# Altium footprint library Con Mod Jack PCB.PcbLib: 213 footprints (part 3 of 14)
Each footprint in its own frame and in the unit in brackets; x right, y up, seen from the top. Pads: shape width x height; smd on the part's side, far side on the other; paste and mask are expansions set on the pad; w line width, h text height; cw(c..) or ccw(c..) is an arc to the next point about the centre after c.
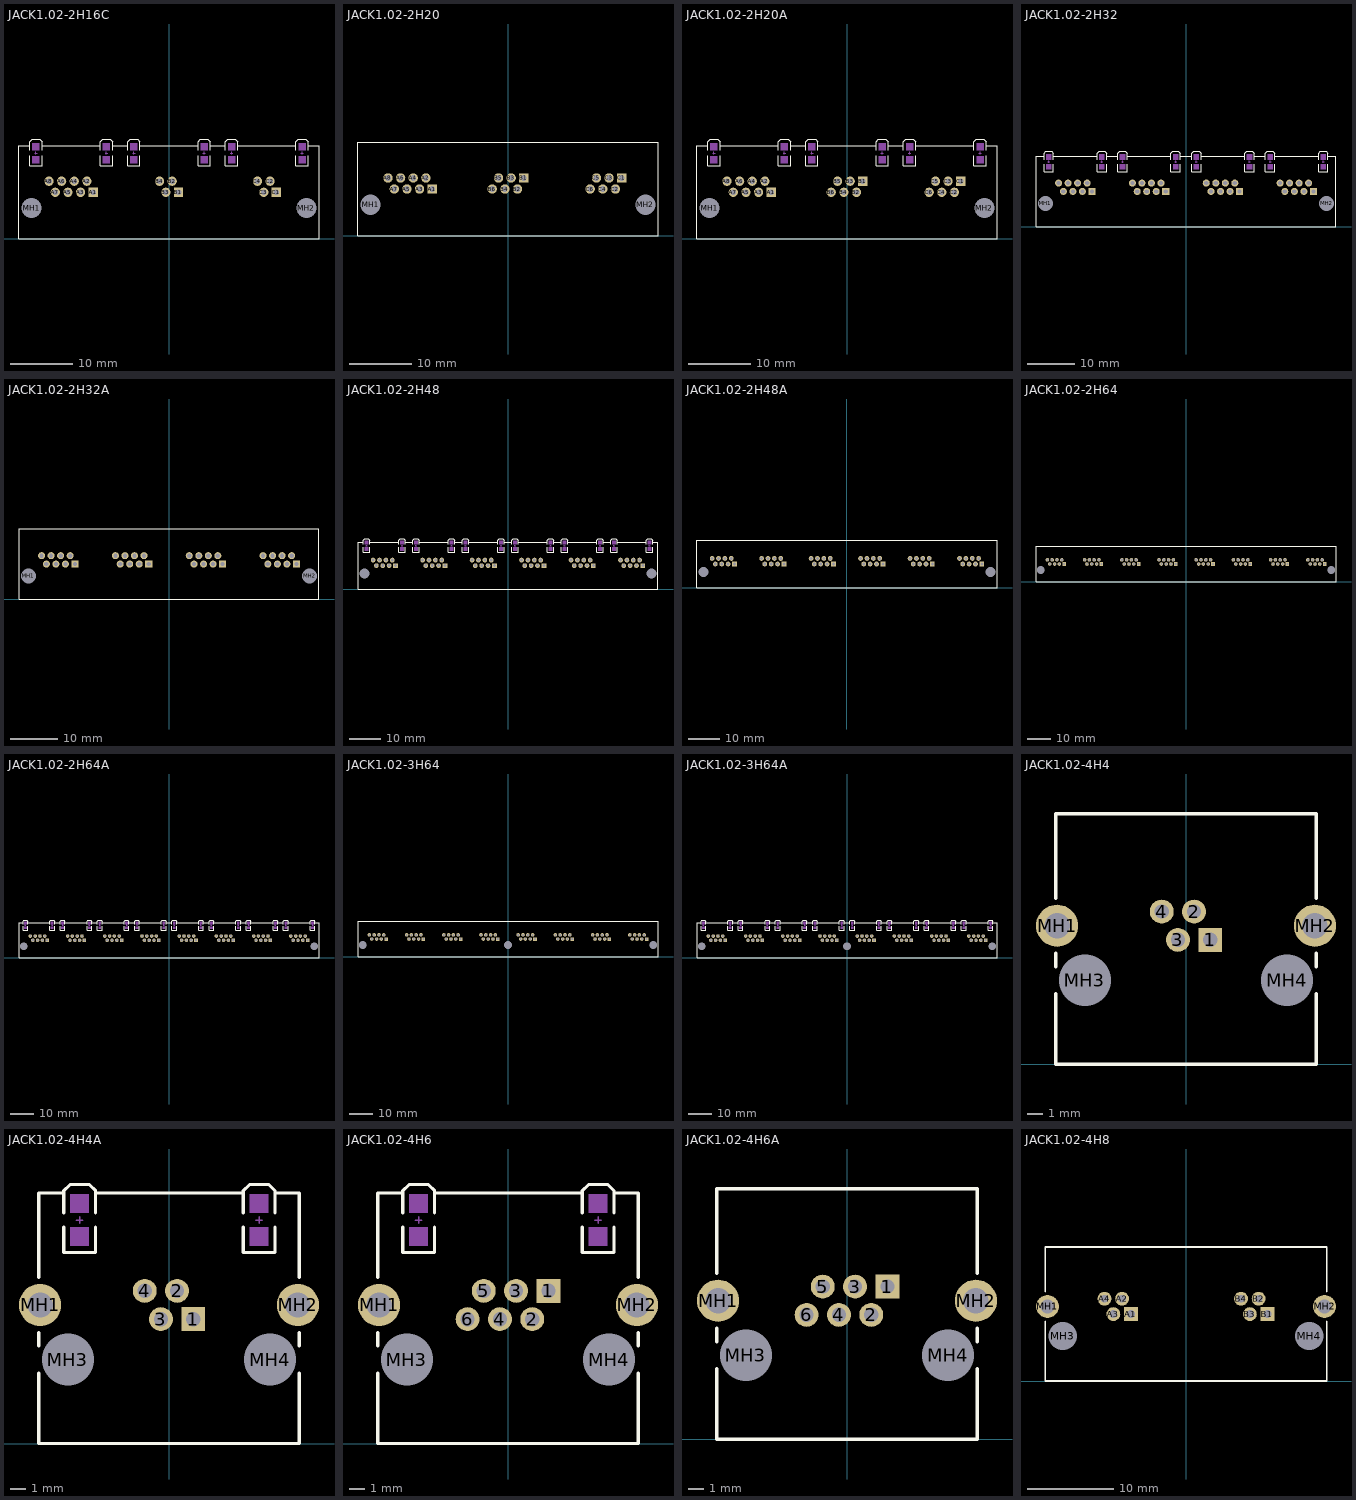
[diagram p2: the footprints below, top view; thin cyan lines are the x and y axes]

## JACK1.02-2H16C [mm] "Connector; PCB Jack, Thru-Hole; 3-Port; Unshielded with Lightpipes; Right Angle"
height 13.21
pads (18):
  rect 1.5x1.5 hole 0.9: A1(-12.192,7.49) B1(1.524,7.49) C1(17.272,7.49)
  round 1.5 hole 0.9: A2(-13.208,9.268) A3(-14.224,7.49) A4(-15.24,9.268) A5(-16.256,7.49) A6(-17.272,9.268) A7(-18.288,7.49) A8(-19.304,9.268) B2(0.508,9.268) B3(-0.508,7.49) B4(-1.524,9.268) C2(16.256,9.268) C3(15.24,7.49) C4(14.224,9.268)
  round 2.95 hole 3.25 unplated: MH1(-22.098,4.95) MH2(22.098,4.95)
Top Overlay:
  lines w0.2: -22.412,13.348 -22.412,11.748 -20.412,11.748 -20.412,13.348 ; -22.412,14.231 -22.412,15.631 -22.012,16.031 -20.812,16.031 -20.412,15.631 -20.412,14.231 ; -22.412,14.99 -24.123,14.99 -24.123,0 24.123,0 24.123,14.99 22.412,14.99 ; -20.412,14.99 -11.084,14.99 ; -11.084,13.348 -11.084,11.748 -9.084,11.748 -9.084,13.348 ; -11.084,14.231 -11.084,15.631 -10.684,16.031 -9.484,16.031 -9.084,15.631 -9.084,14.231 ; -9.084,14.99 -6.664,14.99 ; -6.664,13.348 -6.664,11.748 -4.664,11.748 -4.664,13.348 ; -6.664,14.231 -6.664,15.631 -6.264,16.031 -5.064,16.031 -4.664,15.631 -4.664,14.231 ; -4.664,14.99 4.664,14.99 ; 4.664,13.348 4.664,11.748 6.664,11.748 6.664,13.348 ; 4.664,14.231 4.664,15.631 5.064,16.031 6.264,16.031 6.664,15.631 6.664,14.231 ; 6.664,14.99 9.084,14.99 ; 9.084,13.348 9.084,11.748 11.084,11.748 11.084,13.348 ; 9.084,14.231 9.084,15.631 9.484,16.031 10.684,16.031 11.084,15.631 11.084,14.231 ; 11.084,14.99 20.412,14.99 ; 20.412,13.348 20.412,11.748 22.412,11.748 22.412,13.348 ; 20.412,14.231 20.412,15.631 20.812,16.031 22.012,16.031 22.412,15.631 22.412,14.231
Mechanical 1:
  rectangle: 20.812,14.231 22.012,15.431
  rectangle: 20.812,12.148 22.012,13.348
  rectangle: 9.484,14.231 10.684,15.431
  rectangle: 9.484,12.148 10.684,13.348
  rectangle: 5.064,14.231 6.264,15.431
  rectangle: 5.064,12.148 6.264,13.348
  rectangle: -6.264,14.231 -5.064,15.431
  rectangle: -6.264,12.148 -5.064,13.348
  rectangle: -10.684,14.231 -9.484,15.431
  rectangle: -10.684,12.148 -9.484,13.348
  rectangle: -22.012,14.231 -20.812,15.431
  rectangle: -22.012,12.148 -20.812,13.348
  lines w0.1: -21.612,13.789 -21.412,13.789 ; -21.412,13.589 -21.412,13.789 ; -21.412,13.989 -21.412,13.789 ; -21.212,13.789 -21.412,13.789 ; -10.284,13.789 -10.084,13.789 ; -10.084,13.589 -10.084,13.789 ; -10.084,13.989 -10.084,13.789 ; -9.884,13.789 -10.084,13.789 ; -5.864,13.789 -5.664,13.789 ; -5.664,13.589 -5.664,13.789 ; -5.664,13.989 -5.664,13.789 ; -5.464,13.789 -5.664,13.789 ; 5.464,13.789 5.664,13.789 ; 5.664,13.589 5.664,13.789 ; 5.664,13.989 5.664,13.789 ; 5.864,13.789 5.664,13.789 ; 9.884,13.789 10.084,13.789 ; 10.084,13.589 10.084,13.789 ; 10.084,13.989 10.084,13.789 ; 10.284,13.789 10.084,13.789 ; 21.212,13.789 21.412,13.789 ; 21.412,13.589 21.412,13.789 ; 21.412,13.989 21.412,13.789 ; 21.612,13.789 21.412,13.789

## JACK1.02-2H20 [mm] "Connector; PCB Jack, Thru-Hole; 3-Port; Unshielded without Lightpipes; Right Angle"
height 13.21
pads (22):
  rect 1.5x1.5 hole 0.9: A1(-12.192,7.49) B1(2.54,9.268) C1(18.288,9.268)
  round 1.5 hole 0.9: A2(-13.208,9.268) A3(-14.224,7.49) A4(-15.24,9.268) A5(-16.256,7.49) A6(-17.272,9.268) A7(-18.288,7.49) A8(-19.304,9.268) B2(1.524,7.49) B3(0.508,9.268) B4(-0.508,7.49) B5(-1.524,9.268) B6(-2.54,7.49) C2(17.272,7.49) C3(16.256,9.268) C4(15.24,7.49) C5(14.224,9.268) C6(13.208,7.49)
  round 2.95 hole 3.25 unplated: MH1(-22.098,4.95) MH2(22.098,4.95)
Top Overlay:
  lines w0.2: -24.123,0 -24.123,14.99 24.123,14.99 24.123,0 -24.123,0

## JACK1.02-2H20A [mm] "Connector; PCB Jack, Thru-Hole; 3-Port; Unshielded with Lightpipes; Right Angle"
height 13.21
pads (22):
  rect 1.5x1.5 hole 0.9: A1(-12.192,7.49) B1(2.54,9.268) C1(18.288,9.268)
  round 1.5 hole 0.9: A2(-13.208,9.268) A3(-14.224,7.49) A4(-15.24,9.268) A5(-16.256,7.49) A6(-17.272,9.268) A7(-18.288,7.49) A8(-19.304,9.268) B2(1.524,7.49) B3(0.508,9.268) B4(-0.508,7.49) B5(-1.524,9.268) B6(-2.54,7.49) C2(17.272,7.49) C3(16.256,9.268) C4(15.24,7.49) C5(14.224,9.268) C6(13.208,7.49)
  round 2.95 hole 3.25 unplated: MH1(-22.098,4.95) MH2(22.098,4.95)
Top Overlay:
  lines w0.2: -22.412,13.348 -22.412,11.748 -20.412,11.748 -20.412,13.348 ; -22.412,14.231 -22.412,15.631 -22.012,16.031 -20.812,16.031 -20.412,15.631 -20.412,14.231 ; -22.412,14.99 -24.123,14.99 -24.123,0 24.123,0 24.123,14.99 22.412,14.99 ; -20.412,14.99 -11.084,14.99 ; -11.084,13.348 -11.084,11.748 -9.084,11.748 -9.084,13.348 ; -11.084,14.231 -11.084,15.631 -10.684,16.031 -9.484,16.031 -9.084,15.631 -9.084,14.231 ; -9.084,14.99 -6.664,14.99 ; -6.664,13.348 -6.664,11.748 -4.664,11.748 -4.664,13.348 ; -6.664,14.231 -6.664,15.631 -6.264,16.031 -5.064,16.031 -4.664,15.631 -4.664,14.231 ; -4.664,14.99 4.664,14.99 ; 4.664,13.348 4.664,11.748 6.664,11.748 6.664,13.348 ; 4.664,14.231 4.664,15.631 5.064,16.031 6.264,16.031 6.664,15.631 6.664,14.231 ; 6.664,14.99 9.084,14.99 ; 9.084,13.348 9.084,11.748 11.084,11.748 11.084,13.348 ; 9.084,14.231 9.084,15.631 9.484,16.031 10.684,16.031 11.084,15.631 11.084,14.231 ; 11.084,14.99 20.412,14.99 ; 20.412,13.348 20.412,11.748 22.412,11.748 22.412,13.348 ; 20.412,14.231 20.412,15.631 20.812,16.031 22.012,16.031 22.412,15.631 22.412,14.231
Mechanical 1:
  rectangle: -22.012,12.148 -20.812,13.348
  rectangle: -22.012,14.231 -20.812,15.431
  rectangle: -10.684,12.148 -9.484,13.348
  rectangle: -10.684,14.231 -9.484,15.431
  rectangle: -6.264,12.148 -5.064,13.348
  rectangle: -6.264,14.231 -5.064,15.431
  rectangle: 5.064,12.148 6.264,13.348
  rectangle: 5.064,14.231 6.264,15.431
  rectangle: 9.484,12.148 10.684,13.348
  rectangle: 9.484,14.231 10.684,15.431
  rectangle: 20.812,12.148 22.012,13.348
  rectangle: 20.812,14.231 22.012,15.431
  lines w0.1: -21.612,13.789 -21.412,13.789 ; -21.412,13.589 -21.412,13.789 ; -21.412,13.989 -21.412,13.789 ; -21.212,13.789 -21.412,13.789 ; -10.284,13.789 -10.084,13.789 ; -10.084,13.589 -10.084,13.789 ; -10.084,13.989 -10.084,13.789 ; -9.884,13.789 -10.084,13.789 ; -5.864,13.789 -5.664,13.789 ; -5.664,13.589 -5.664,13.789 ; -5.664,13.989 -5.664,13.789 ; -5.464,13.789 -5.664,13.789 ; 5.464,13.789 5.664,13.789 ; 5.664,13.589 5.664,13.789 ; 5.664,13.989 5.664,13.789 ; 5.864,13.789 5.664,13.789 ; 9.884,13.789 10.084,13.789 ; 10.084,13.589 10.084,13.789 ; 10.084,13.989 10.084,13.789 ; 10.284,13.789 10.084,13.789 ; 21.212,13.789 21.412,13.789 ; 21.412,13.589 21.412,13.789 ; 21.412,13.989 21.412,13.789 ; 21.612,13.789 21.412,13.789

## JACK1.02-2H32 [mm] "Connector; PCB Jack, Thru-Hole; 4-Port, 8 Positions, 8 Loaded; Unshielded with Lightpipes; Right Angle"
height 13.21
pads (34):
  rect 1.5x1.5 hole 0.9: A1(-20.066,7.49) B1(-4.318,7.49) C1(11.43,7.49) D1(27.178,7.49)
  round 1.5 hole 0.9: A2(-21.082,9.268) A3(-22.098,7.49) A4(-23.114,9.268) A5(-24.13,7.49) A6(-25.146,9.268) A7(-26.162,7.49) A8(-27.178,9.268) B2(-5.334,9.268) B3(-6.35,7.49) B4(-7.366,9.268) B5(-8.382,7.49) B6(-9.398,9.268) B7(-10.414,7.49) B8(-11.43,9.268) C2(10.414,9.268) C3(9.398,7.49) C4(8.382,9.268) C5(7.366,7.49) C6(6.35,9.268) C7(5.334,7.49) C8(4.318,9.268) D2(26.162,9.268) D3(25.146,7.49) D4(24.13,9.268) D5(23.114,7.49) D6(22.098,9.268) D7(21.082,7.49) D8(20.066,9.268)
  round 2.95 hole 3.25 unplated: MH1(-29.972,4.95) MH2(29.972,4.95)
Top Overlay:
  lines w0.2: -30.286,13.348 -30.286,11.748 -28.286,11.748 -28.286,13.348 ; -30.286,14.231 -30.286,15.631 -29.886,16.031 -28.686,16.031 -28.286,15.631 -28.286,14.231 ; -30.286,14.99 -31.997,14.99 -31.997,0 31.997,0 31.997,14.99 30.286,14.99 ; -28.286,14.99 -18.958,14.99 ; -18.958,13.348 -18.958,11.748 -16.958,11.748 -16.958,13.348 ; -18.958,14.231 -18.958,15.631 -18.558,16.031 -17.358,16.031 -16.958,15.631 -16.958,14.231 ; -16.958,14.99 -14.538,14.99 ; -14.538,13.348 -14.538,11.748 -12.538,11.748 -12.538,13.348 ; -14.538,14.231 -14.538,15.631 -14.138,16.031 -12.938,16.031 -12.538,15.631 -12.538,14.231 ; -12.538,14.99 -3.21,14.99 ; -3.21,13.348 -3.21,11.748 -1.21,11.748 -1.21,13.348 ; -3.21,14.231 -3.21,15.631 -2.81,16.031 -1.61,16.031 -1.21,15.631 -1.21,14.231 ; -1.21,14.99 1.21,14.99 ; 1.21,13.348 1.21,11.748 3.21,11.748 3.21,13.348 ; 1.21,14.231 1.21,15.631 1.61,16.031 2.81,16.031 3.21,15.631 3.21,14.231 ; 3.21,14.99 12.538,14.99 ; 12.538,13.348 12.538,11.748 14.538,11.748 14.538,13.348 ; 12.538,14.231 12.538,15.631 12.938,16.031 14.138,16.031 14.538,15.631 14.538,14.231 ; 14.538,14.99 16.958,14.99 ; 16.958,13.348 16.958,11.748 18.958,11.748 18.958,13.348 ; 16.958,14.231 16.958,15.631 17.358,16.031 18.558,16.031 18.958,15.631 18.958,14.231 ; 18.958,14.99 28.286,14.99 ; 28.286,13.348 28.286,11.748 30.286,11.748 30.286,13.348 ; 28.286,14.231 28.286,15.631 28.686,16.031 29.886,16.031 30.286,15.631 30.286,14.231
Mechanical 1:
  rectangle: -29.886,12.148 -28.686,13.348
  rectangle: -29.886,14.231 -28.686,15.431
  rectangle: -18.558,12.148 -17.358,13.348
  rectangle: -18.558,14.231 -17.358,15.431
  rectangle: -14.138,12.148 -12.938,13.348
  rectangle: -14.138,14.231 -12.938,15.431
  rectangle: -2.81,12.148 -1.61,13.348
  rectangle: -2.81,14.231 -1.61,15.431
  rectangle: 1.61,12.148 2.81,13.348
  rectangle: 1.61,14.231 2.81,15.431
  rectangle: 12.938,12.148 14.138,13.348
  rectangle: 12.938,14.231 14.138,15.431
  rectangle: 17.358,12.148 18.558,13.348
  rectangle: 17.358,14.231 18.558,15.431
  rectangle: 28.686,12.148 29.886,13.348
  rectangle: 28.686,14.231 29.886,15.431
  lines w0.1: -29.486,13.789 -29.286,13.789 ; -29.286,13.589 -29.286,13.789 ; -29.286,13.989 -29.286,13.789 ; -29.086,13.789 -29.286,13.789 ; -18.158,13.789 -17.958,13.789 ; -17.958,13.589 -17.958,13.789 ; -17.958,13.989 -17.958,13.789 ; -17.758,13.789 -17.958,13.789 ; -13.738,13.789 -13.538,13.789 ; -13.538,13.589 -13.538,13.789 ; -13.538,13.989 -13.538,13.789 ; -13.338,13.789 -13.538,13.789 ; -2.41,13.789 -2.21,13.789 ; -2.21,13.589 -2.21,13.789 ; -2.21,13.989 -2.21,13.789 ; -2.01,13.789 -2.21,13.789 ; 2.01,13.789 2.21,13.789 ; 2.21,13.589 2.21,13.789 ; 2.21,13.989 2.21,13.789 ; 2.41,13.789 2.21,13.789 ; 13.338,13.789 13.538,13.789 ; 13.538,13.589 13.538,13.789 ; 13.538,13.989 13.538,13.789 ; 13.738,13.789 13.538,13.789 ; 17.758,13.789 17.958,13.789 ; 17.958,13.589 17.958,13.789 ; 17.958,13.989 17.958,13.789 ; 18.158,13.789 17.958,13.789 ; 29.086,13.789 29.286,13.789 ; 29.286,13.589 29.286,13.789 ; 29.286,13.989 29.286,13.789 ; 29.486,13.789 29.286,13.789

## JACK1.02-2H32A [mm] "Connector; PCB Jack, Thru-Hole; 4-Port, 8 Positions, 8 Loaded; Unshielded without Lightpipes; Right Angle"
height 13.21
pads (34):
  rect 1.5x1.5 hole 0.9: A1(-20.066,7.49) B1(-4.318,7.49) C1(11.43,7.49) D1(27.178,7.49)
  round 1.5 hole 0.9: A2(-21.082,9.268) A3(-22.098,7.49) A4(-23.114,9.268) A5(-24.13,7.49) A6(-25.146,9.268) A7(-26.162,7.49) A8(-27.178,9.268) B2(-5.334,9.268) B3(-6.35,7.49) B4(-7.366,9.268) B5(-8.382,7.49) B6(-9.398,9.268) B7(-10.414,7.49) B8(-11.43,9.268) C2(10.414,9.268) C3(9.398,7.49) C4(8.382,9.268) C5(7.366,7.49) C6(6.35,9.268) C7(5.334,7.49) C8(4.318,9.268) D2(26.162,9.268) D3(25.146,7.49) D4(24.13,9.268) D5(23.114,7.49) D6(22.098,9.268) D7(21.082,7.49) D8(20.066,9.268)
  round 2.95 hole 3.25 unplated: MH1(-29.972,4.95) MH2(29.972,4.95)
Top Overlay:
  lines w0.2: -31.997,0 31.997,0 31.997,14.99 -31.997,14.99 -31.997,0

## JACK1.02-2H48 [mm] "Connector; PCB Jack, Thru-Hole; 6-Port, 8 Positions, 8 Loaded; Unshielded with Lightpipes; Right Angle"
height 13.21
pads (50):
  rect 1.5x1.5 hole 0.9: A1(-35.814,7.49) B1(-20.066,7.49) C1(-4.318,7.49) D1(11.43,7.49) E1(27.178,7.49) F1(42.926,7.49)
  round 1.5 hole 0.9: A2(-36.83,9.268) A3(-37.846,7.49) A4(-38.862,9.268) A5(-39.878,7.49) A6(-40.894,9.268) A7(-41.91,7.49) A8(-42.926,9.268) B2(-21.082,9.268) B3(-22.098,7.49) B4(-23.114,9.268) B5(-24.13,7.49) B6(-25.146,9.268) B7(-26.162,7.49) B8(-27.178,9.268) C2(-5.334,9.268) C3(-6.35,7.49) C4(-7.366,9.268) C5(-8.382,7.49) C6(-9.398,9.268) C7(-10.414,7.49) C8(-11.43,9.268) D2(10.414,9.268) D3(9.398,7.49) D4(8.382,9.268) D5(7.366,7.49) D6(6.35,9.268) D7(5.334,7.49) D8(4.318,9.268) E2(26.162,9.268) E3(25.146,7.49) E4(24.13,9.268) E5(23.114,7.49) E6(22.098,9.268) E7(21.082,7.49) E8(20.066,9.268) F2(41.91,9.268) F3(40.894,7.49) F4(39.878,9.268) F5(38.862,7.49) F6(37.846,9.268) F7(36.83,7.49) F8(35.814,9.268)
  round 2.95 hole 3.25 unplated: MH1(-45.72,4.95) MH2(45.72,4.95)
Top Overlay:
  lines w0.2: -46.034,13.348 -46.034,11.748 -44.034,11.748 -44.034,13.348 ; -46.034,14.231 -46.034,15.631 -45.634,16.031 -44.434,16.031 -44.034,15.631 -44.034,14.231 ; -46.034,14.99 -47.745,14.99 -47.745,0 47.745,0 47.745,14.99 46.034,14.99 ; -44.034,14.99 -34.706,14.99 ; -34.706,13.348 -34.706,11.748 -32.706,11.748 -32.706,13.348 ; -34.706,14.231 -34.706,15.631 -34.306,16.031 -33.106,16.031 -32.706,15.631 -32.706,14.231 ; -32.706,14.99 -30.286,14.99 ; -30.286,13.348 -30.286,11.748 -28.286,11.748 -28.286,13.348 ; -30.286,14.231 -30.286,15.631 -29.886,16.031 -28.686,16.031 -28.286,15.631 -28.286,14.231 ; -28.286,14.99 -18.958,14.99 ; -18.958,13.348 -18.958,11.748 -16.958,11.748 -16.958,13.348 ; -18.958,14.231 -18.958,15.631 -18.558,16.031 -17.358,16.031 -16.958,15.631 -16.958,14.231 ; -16.958,14.99 -14.538,14.99 ; -14.538,13.348 -14.538,11.748 -12.538,11.748 -12.538,13.348 ; -14.538,14.231 -14.538,15.631 -14.138,16.031 -12.938,16.031 -12.538,15.631 -12.538,14.231 ; -12.538,14.99 -3.21,14.99 ; -3.21,13.348 -3.21,11.748 -1.21,11.748 -1.21,13.348 ; -3.21,14.231 -3.21,15.631 -2.81,16.031 -1.61,16.031 -1.21,15.631 -1.21,14.231 ; -1.21,14.99 1.21,14.99 ; 1.21,13.348 1.21,11.748 3.21,11.748 3.21,13.348 ; 1.21,14.231 1.21,15.631 1.61,16.031 2.81,16.031 3.21,15.631 3.21,14.231 ; 3.21,14.99 12.538,14.99 ; 12.538,13.348 12.538,11.748 14.538,11.748 14.538,13.348 ; 12.538,14.231 12.538,15.631 12.938,16.031 14.138,16.031 14.538,15.631 14.538,14.231 ; 14.538,14.99 16.958,14.99 ; 16.958,13.348 16.958,11.748 18.958,11.748 18.958,13.348 ; 16.958,14.231 16.958,15.631 17.358,16.031 18.558,16.031 18.958,15.631 18.958,14.231 ; 18.958,14.99 28.286,14.99 ; 28.286,13.348 28.286,11.748 30.286,11.748 30.286,13.348 ; 28.286,14.231 28.286,15.631 28.686,16.031 29.886,16.031 30.286,15.631 30.286,14.231 ; 30.286,14.99 32.706,14.99 ; 32.706,13.348 32.706,11.748 34.706,11.748 34.706,13.348 ; 32.706,14.231 32.706,15.631 33.106,16.031 34.306,16.031 34.706,15.631 34.706,14.231 ; 34.706,14.99 44.034,14.99 ; 44.034,13.348 44.034,11.748 46.034,11.748 46.034,13.348 ; 44.034,14.231 44.034,15.631 44.434,16.031 45.634,16.031 46.034,15.631 46.034,14.231
Mechanical 1:
  rectangle: 44.434,14.231 45.634,15.431
  rectangle: 44.434,12.148 45.634,13.348
  rectangle: 33.106,14.231 34.306,15.431
  rectangle: 33.106,12.148 34.306,13.348
  rectangle: 28.686,14.231 29.886,15.431
  rectangle: 28.686,12.148 29.886,13.348
  rectangle: 17.358,14.231 18.558,15.431
  rectangle: 17.358,12.148 18.558,13.348
  rectangle: 12.938,14.231 14.138,15.431
  rectangle: 12.938,12.148 14.138,13.348
  rectangle: 1.61,14.231 2.81,15.431
  rectangle: 1.61,12.148 2.81,13.348
  rectangle: -2.81,14.231 -1.61,15.431
  rectangle: -2.81,12.148 -1.61,13.348
  rectangle: -14.138,14.231 -12.938,15.431
  rectangle: -14.138,12.148 -12.938,13.348
  rectangle: -18.558,14.231 -17.358,15.431
  rectangle: -18.558,12.148 -17.358,13.348
  rectangle: -29.886,14.231 -28.686,15.431
  rectangle: -29.886,12.148 -28.686,13.348
  rectangle: -34.306,14.231 -33.106,15.431
  rectangle: -34.306,12.148 -33.106,13.348
  rectangle: -45.634,14.231 -44.434,15.431
  rectangle: -45.634,12.148 -44.434,13.348
  lines w0.1: -45.234,13.789 -45.034,13.789 ; -45.034,13.589 -45.034,13.789 ; -45.034,13.989 -45.034,13.789 ; -44.834,13.789 -45.034,13.789 ; -33.906,13.789 -33.706,13.789 ; -33.706,13.589 -33.706,13.789 ; -33.706,13.989 -33.706,13.789 ; -33.506,13.789 -33.706,13.789 ; -29.486,13.789 -29.286,13.789 ; -29.286,13.589 -29.286,13.789 ; -29.286,13.989 -29.286,13.789 ; -29.086,13.789 -29.286,13.789 ; -18.158,13.789 -17.958,13.789 ; -17.958,13.589 -17.958,13.789 ; -17.958,13.989 -17.958,13.789 ; -17.758,13.789 -17.958,13.789 ; -13.738,13.789 -13.538,13.789 ; -13.538,13.589 -13.538,13.789 ; -13.538,13.989 -13.538,13.789 ; -13.338,13.789 -13.538,13.789 ; -2.41,13.789 -2.21,13.789 ; -2.21,13.589 -2.21,13.789 ; -2.21,13.989 -2.21,13.789 ; -2.01,13.789 -2.21,13.789 ; 2.01,13.789 2.21,13.789 ; 2.21,13.589 2.21,13.789 ; 2.21,13.989 2.21,13.789 ; 2.41,13.789 2.21,13.789 ; 13.338,13.789 13.538,13.789 ; 13.538,13.589 13.538,13.789 ; 13.538,13.989 13.538,13.789 ; 13.738,13.789 13.538,13.789 ; 17.758,13.789 17.958,13.789 ; 17.958,13.589 17.958,13.789 ; 17.958,13.989 17.958,13.789 ; 18.158,13.789 17.958,13.789 ; 29.086,13.789 29.286,13.789 ; 29.286,13.589 29.286,13.789 ; 29.286,13.989 29.286,13.789 ; 29.486,13.789 29.286,13.789 ; 33.506,13.789 33.706,13.789 ; 33.706,13.589 33.706,13.789 ; 33.706,13.989 33.706,13.789 ; 33.906,13.789 33.706,13.789 ; 44.834,13.789 45.034,13.789 ; 45.034,13.589 45.034,13.789 ; 45.034,13.989 45.034,13.789 ; 45.234,13.789 45.034,13.789

## JACK1.02-2H48A [mm] "Connector; PCB Jack, Thru-Hole; 6-Port, 8 Positions, 8 Loaded; Unshielded without Lightpipes; Right Angle"
height 13.21
pads (50):
  rect 1.5x1.5 hole 0.9: A1(-35.814,7.49) B1(-20.066,7.49) C1(-4.318,7.49) D1(11.43,7.49) E1(27.178,7.49) F1(42.926,7.49)
  round 1.5 hole 0.9: A2(-36.83,9.268) A3(-37.846,7.49) A4(-38.862,9.268) A5(-39.878,7.49) A6(-40.894,9.268) A7(-41.91,7.49) A8(-42.926,9.268) B2(-21.082,9.268) B3(-22.098,7.49) B4(-23.114,9.268) B5(-24.13,7.49) B6(-25.146,9.268) B7(-26.162,7.49) B8(-27.178,9.268) C2(-5.334,9.268) C3(-6.35,7.49) C4(-7.366,9.268) C5(-8.382,7.49) C6(-9.398,9.268) C7(-10.414,7.49) C8(-11.43,9.268) D2(10.414,9.268) D3(9.398,7.49) D4(8.382,9.268) D5(7.366,7.49) D6(6.35,9.268) D7(5.334,7.49) D8(4.318,9.268) E2(26.162,9.268) E3(25.146,7.49) E4(24.13,9.268) E5(23.114,7.49) E6(22.098,9.268) E7(21.082,7.49) E8(20.066,9.268) F2(41.91,9.268) F3(40.894,7.49) F4(39.878,9.268) F5(38.862,7.49) F6(37.846,9.268) F7(36.83,7.49) F8(35.814,9.268)
  round 2.95 hole 3.25 unplated: MH1(-45.72,4.95) MH2(45.72,4.95)
Top Overlay:
  lines w0.2: -47.745,0 -47.745,14.99 47.745,14.99 47.745,0 -47.745,0

## JACK1.02-2H64 [mm] "Connector; PCB Jack, Thru-Hole; 8-Port, 8 Positions, 8 Loaded; Unshielded without Lightpipes; Right Angle"
height 13.21
pads (66):
  rect 1.5x1.5 hole 0.9: A1(-51.562,7.49) B1(-35.814,7.49) C1(-20.066,7.49) D1(-4.318,7.49) E1(11.43,7.49) F1(27.178,7.49) G1(42.926,7.49) H1(58.674,7.49)
  round 1.5 hole 0.9: A2(-52.578,9.268) A3(-53.594,7.49) A4(-54.61,9.268) A5(-55.626,7.49) A6(-56.642,9.268) A7(-57.658,7.49) A8(-58.674,9.268) B2(-36.83,9.268) B3(-37.846,7.49) B4(-38.862,9.268) B5(-39.878,7.49) B6(-40.894,9.268) B7(-41.91,7.49) B8(-42.926,9.268) C2(-21.082,9.268) C3(-22.098,7.49) C4(-23.114,9.268) C5(-24.13,7.49) C6(-25.146,9.268) C7(-26.162,7.49) C8(-27.178,9.268) D2(-5.334,9.268) D3(-6.35,7.49) D4(-7.366,9.268) D5(-8.382,7.49) D6(-9.398,9.268) D7(-10.414,7.49) D8(-11.43,9.268) E2(10.414,9.268) E3(9.398,7.49) E4(8.382,9.268) E5(7.366,7.49) E6(6.35,9.268) E7(5.334,7.49) E8(4.318,9.268) F2(26.162,9.268) F3(25.146,7.49) F4(24.13,9.268) F5(23.114,7.49) F6(22.098,9.268) F7(21.082,7.49) F8(20.066,9.268) G2(41.91,9.268) G3(40.894,7.49) G4(39.878,9.268) G5(38.862,7.49) G6(37.846,9.268) G7(36.83,7.49) G8(35.814,9.268) H2(57.658,9.268) H3(56.642,7.49) H4(55.626,9.268) H5(54.61,7.49) H6(53.594,9.268) H7(52.578,7.49) H8(51.562,9.268)
  round 2.95 hole 3.25 unplated: MH1(-61.468,4.95) MH2(61.468,4.95)
Top Overlay:
  lines w0.2: -63.493,0 63.493,0 63.493,14.99 -63.493,14.99 -63.493,0

## JACK1.02-2H64A [mm] "Connector; PCB Jack, Thru-Hole; 8-Port, 8 Positions, 8 Loaded; Unshielded with Lightpipes; Right Angle"
height 13.21
pads (66):
  rect 1.5x1.5 hole 0.9: A1(-51.562,7.49) B1(-35.814,7.49) C1(-20.066,7.49) D1(-4.318,7.49) E1(11.43,7.49) F1(27.178,7.49) G1(42.926,7.49) H1(58.674,7.49)
  round 1.5 hole 0.9: A2(-52.578,9.268) A3(-53.594,7.49) A4(-54.61,9.268) A5(-55.626,7.49) A6(-56.642,9.268) A7(-57.658,7.49) A8(-58.674,9.268) B2(-36.83,9.268) B3(-37.846,7.49) B4(-38.862,9.268) B5(-39.878,7.49) B6(-40.894,9.268) B7(-41.91,7.49) B8(-42.926,9.268) C2(-21.082,9.268) C3(-22.098,7.49) C4(-23.114,9.268) C5(-24.13,7.49) C6(-25.146,9.268) C7(-26.162,7.49) C8(-27.178,9.268) D2(-5.334,9.268) D3(-6.35,7.49) D4(-7.366,9.268) D5(-8.382,7.49) D6(-9.398,9.268) D7(-10.414,7.49) D8(-11.43,9.268) E2(10.414,9.268) E3(9.398,7.49) E4(8.382,9.268) E5(7.366,7.49) E6(6.35,9.268) E7(5.334,7.49) E8(4.318,9.268) F2(26.162,9.268) F3(25.146,7.49) F4(24.13,9.268) F5(23.114,7.49) F6(22.098,9.268) F7(21.082,7.49) F8(20.066,9.268) G2(41.91,9.268) G3(40.894,7.49) G4(39.878,9.268) G5(38.862,7.49) G6(37.846,9.268) G7(36.83,7.49) G8(35.814,9.268) H2(57.658,9.268) H3(56.642,7.49) H4(55.626,9.268) H5(54.61,7.49) H6(53.594,9.268) H7(52.578,7.49) H8(51.562,9.268)
  round 2.95 hole 3.25 unplated: MH1(-61.468,4.95) MH2(61.468,4.95)
Top Overlay:
  lines w0.2: -61.782,13.348 -61.782,11.748 -59.782,11.748 -59.782,13.348 ; -61.782,14.231 -61.782,15.631 -61.382,16.031 -60.182,16.031 -59.782,15.631 -59.782,14.231 ; -61.782,14.99 -63.493,14.99 -63.493,0 63.493,0 63.493,14.99 61.782,14.99 ; -59.782,14.99 -50.454,14.99 ; -50.454,13.348 -50.454,11.748 -48.454,11.748 -48.454,13.348 ; -50.454,14.231 -50.454,15.631 -50.054,16.031 -48.854,16.031 -48.454,15.631 -48.454,14.231 ; -48.454,14.99 -46.034,14.99 ; -46.034,13.348 -46.034,11.748 -44.034,11.748 -44.034,13.348 ; -46.034,14.231 -46.034,15.631 -45.634,16.031 -44.434,16.031 -44.034,15.631 -44.034,14.231 ; -44.034,14.99 -34.706,14.99 ; -34.706,13.348 -34.706,11.748 -32.706,11.748 -32.706,13.348 ; -34.706,14.231 -34.706,15.631 -34.306,16.031 -33.106,16.031 -32.706,15.631 -32.706,14.231 ; -32.706,14.99 -30.286,14.99 ; -30.286,13.348 -30.286,11.748 -28.286,11.748 -28.286,13.348 ; -30.286,14.231 -30.286,15.631 -29.886,16.031 -28.686,16.031 -28.286,15.631 -28.286,14.231 ; -28.286,14.99 -18.958,14.99 ; -18.958,13.348 -18.958,11.748 -16.958,11.748 -16.958,13.348 ; -18.958,14.231 -18.958,15.631 -18.558,16.031 -17.358,16.031 -16.958,15.631 -16.958,14.231 ; -16.958,14.99 -14.538,14.99 ; -14.538,13.348 -14.538,11.748 -12.538,11.748 -12.538,13.348 ; -14.538,14.231 -14.538,15.631 -14.138,16.031 -12.938,16.031 -12.538,15.631 -12.538,14.231 ; -12.538,14.99 -3.21,14.99 ; -3.21,13.348 -3.21,11.748 -1.21,11.748 -1.21,13.348 ; -3.21,14.231 -3.21,15.631 -2.81,16.031 -1.61,16.031 -1.21,15.631 -1.21,14.231 ; -1.21,14.99 1.21,14.99 ; 1.21,13.348 1.21,11.748 3.21,11.748 3.21,13.348 ; 1.21,14.231 1.21,15.631 1.61,16.031 2.81,16.031 3.21,15.631 3.21,14.231 ; 3.21,14.99 12.538,14.99 ; 12.538,13.348 12.538,11.748 14.538,11.748 14.538,13.348 ; 12.538,14.231 12.538,15.631 12.938,16.031 14.138,16.031 14.538,15.631 14.538,14.231 ; 14.538,14.99 16.958,14.99 ; 16.958,13.348 16.958,11.748 18.958,11.748 18.958,13.348 ; 16.958,14.231 16.958,15.631 17.358,16.031 18.558,16.031 18.958,15.631 18.958,14.231 ; 18.958,14.99 28.286,14.99 ; 28.286,13.348 28.286,11.748 30.286,11.748 30.286,13.348 ; 28.286,14.231 28.286,15.631 28.686,16.031 29.886,16.031 30.286,15.631 30.286,14.231 ; 30.286,14.99 32.706,14.99 ; 32.706,13.348 32.706,11.748 34.706,11.748 34.706,13.348 ; 32.706,14.231 32.706,15.631 33.106,16.031 34.306,16.031 34.706,15.631 34.706,14.231 ; 34.706,14.99 44.034,14.99 ; 44.034,13.348 44.034,11.748 46.034,11.748 46.034,13.348 ; 44.034,14.231 44.034,15.631 44.434,16.031 45.634,16.031 46.034,15.631 46.034,14.231 ; 46.034,14.99 48.454,14.99 ; 48.454,13.348 48.454,11.748 50.454,11.748 50.454,13.348 ; 48.454,14.231 48.454,15.631 48.854,16.031 50.054,16.031 50.454,15.631 50.454,14.231 ; 50.454,14.99 59.782,14.99 ; 59.782,13.348 59.782,11.748 61.782,11.748 61.782,13.348 ; 59.782,14.231 59.782,15.631 60.182,16.031 61.382,16.031 61.782,15.631 61.782,14.231
Mechanical 1:
  rectangle: 60.182,14.231 61.382,15.431
  rectangle: 60.182,12.148 61.382,13.348
  rectangle: 48.854,14.231 50.054,15.431
  rectangle: 48.854,12.148 50.054,13.348
  rectangle: 44.434,14.231 45.634,15.431
  rectangle: 44.434,12.148 45.634,13.348
  rectangle: 33.106,14.231 34.306,15.431
  rectangle: 33.106,12.148 34.306,13.348
  rectangle: 28.686,14.231 29.886,15.431
  rectangle: 28.686,12.148 29.886,13.348
  rectangle: 17.358,14.231 18.558,15.431
  rectangle: 17.358,12.148 18.558,13.348
  rectangle: 12.938,14.231 14.138,15.431
  rectangle: 12.938,12.148 14.138,13.348
  rectangle: 1.61,14.231 2.81,15.431
  rectangle: 1.61,12.148 2.81,13.348
  rectangle: -2.81,14.231 -1.61,15.431
  rectangle: -2.81,12.148 -1.61,13.348
  rectangle: -14.138,14.231 -12.938,15.431
  rectangle: -14.138,12.148 -12.938,13.348
  rectangle: -18.558,14.231 -17.358,15.431
  rectangle: -18.558,12.148 -17.358,13.348
  rectangle: -29.886,14.231 -28.686,15.431
  rectangle: -29.886,12.148 -28.686,13.348
  rectangle: -34.306,14.231 -33.106,15.431
  rectangle: -34.306,12.148 -33.106,13.348
  rectangle: -45.634,14.231 -44.434,15.431
  rectangle: -45.634,12.148 -44.434,13.348
  rectangle: -50.054,14.231 -48.854,15.431
  rectangle: -50.054,12.148 -48.854,13.348
  rectangle: -61.382,14.231 -60.182,15.431
  rectangle: -61.382,12.148 -60.182,13.348
  lines w0.1: -60.982,13.789 -60.782,13.789 ; -60.782,13.589 -60.782,13.789 ; -60.782,13.989 -60.782,13.789 ; -60.582,13.789 -60.782,13.789 ; -49.654,13.789 -49.454,13.789 ; -49.454,13.589 -49.454,13.789 ; -49.454,13.989 -49.454,13.789 ; -49.254,13.789 -49.454,13.789 ; -45.234,13.789 -45.034,13.789 ; -45.034,13.589 -45.034,13.789 ; -45.034,13.989 -45.034,13.789 ; -44.834,13.789 -45.034,13.789 ; -33.906,13.789 -33.706,13.789 ; -33.706,13.589 -33.706,13.789 ; -33.706,13.989 -33.706,13.789 ; -33.506,13.789 -33.706,13.789 ; -29.486,13.789 -29.286,13.789 ; -29.286,13.589 -29.286,13.789 ; -29.286,13.989 -29.286,13.789 ; -29.086,13.789 -29.286,13.789 ; -18.158,13.789 -17.958,13.789 ; -17.958,13.589 -17.958,13.789 ; -17.958,13.989 -17.958,13.789 ; -17.758,13.789 -17.958,13.789 ; -13.738,13.789 -13.538,13.789 ; -13.538,13.589 -13.538,13.789 ; -13.538,13.989 -13.538,13.789 ; -13.338,13.789 -13.538,13.789 ; -2.41,13.789 -2.21,13.789 ; -2.21,13.589 -2.21,13.789 ; -2.21,13.989 -2.21,13.789 ; -2.01,13.789 -2.21,13.789 ; 2.01,13.789 2.21,13.789 ; 2.21,13.589 2.21,13.789 ; 2.21,13.989 2.21,13.789 ; 2.41,13.789 2.21,13.789 ; 13.338,13.789 13.538,13.789 ; 13.538,13.589 13.538,13.789 ; 13.538,13.989 13.538,13.789 ; 13.738,13.789 13.538,13.789 ; 17.758,13.789 17.958,13.789 ; 17.958,13.589 17.958,13.789 ; 17.958,13.989 17.958,13.789 ; 18.158,13.789 17.958,13.789 ; 29.086,13.789 29.286,13.789 ; 29.286,13.589 29.286,13.789 ; 29.286,13.989 29.286,13.789 ; 29.486,13.789 29.286,13.789 ; 33.506,13.789 33.706,13.789 ; 33.706,13.589 33.706,13.789 ; 33.706,13.989 33.706,13.789 ; 33.906,13.789 33.706,13.789 ; 44.834,13.789 45.034,13.789 ; 45.034,13.589 45.034,13.789 ; 45.034,13.989 45.034,13.789 ; 45.234,13.789 45.034,13.789 ; 49.254,13.789 49.454,13.789 ; 49.454,13.589 49.454,13.789 ; 49.454,13.989 49.454,13.789 ; 49.654,13.789 49.454,13.789 ; 60.582,13.789 60.782,13.789 ; 60.782,13.589 60.782,13.789 ; 60.782,13.989 60.782,13.789 ; 60.982,13.789 60.782,13.789

## JACK1.02-3H64 [mm] "Connector; PCB Jack, Thru-Hole; 8-Port, 8 Positions, 8 Loaded; Unshielded without Lightpipes; Right Angle"
height 13.21
pads (67):
  rect 1.5x1.5 hole 0.9: A1(-51.562,7.49) B1(-35.814,7.49) C1(-20.066,7.49) D1(-4.318,7.49) E1(11.43,7.49) F1(27.178,7.49) G1(42.926,7.49) H1(58.674,7.49)
  round 1.5 hole 0.9: A2(-52.578,9.268) A3(-53.594,7.49) A4(-54.61,9.268) A5(-55.626,7.49) A6(-56.642,9.268) A7(-57.658,7.49) A8(-58.674,9.268) B2(-36.83,9.268) B3(-37.846,7.49) B4(-38.862,9.268) B5(-39.878,7.49) B6(-40.894,9.268) B7(-41.91,7.49) B8(-42.926,9.268) C2(-21.082,9.268) C3(-22.098,7.49) C4(-23.114,9.268) C5(-24.13,7.49) C6(-25.146,9.268) C7(-26.162,7.49) C8(-27.178,9.268) D2(-5.334,9.268) D3(-6.35,7.49) D4(-7.366,9.268) D5(-8.382,7.49) D6(-9.398,9.268) D7(-10.414,7.49) D8(-11.43,9.268) E2(10.414,9.268) E3(9.398,7.49) E4(8.382,9.268) E5(7.366,7.49) E6(6.35,9.268) E7(5.334,7.49) E8(4.318,9.268) F2(26.162,9.268) F3(25.146,7.49) F4(24.13,9.268) F5(23.114,7.49) F6(22.098,9.268) F7(21.082,7.49) F8(20.066,9.268) G2(41.91,9.268) G3(40.894,7.49) G4(39.878,9.268) G5(38.862,7.49) G6(37.846,9.268) G7(36.83,7.49) G8(35.814,9.268) H2(57.658,9.268) H3(56.642,7.49) H4(55.626,9.268) H5(54.61,7.49) H6(53.594,9.268) H7(52.578,7.49) H8(51.562,9.268)
  round 2.95 hole 3.25 unplated: MH1(-61.468,4.95) MH2(0,4.95) MH3(61.468,4.95)
Top Overlay:
  lines w0.2: 63.493,14.99 63.493,0 -63.493,0 -63.493,14.99 63.493,15

## JACK1.02-3H64A [mm] "Connector; PCB Jack, Thru-Hole; 8-Port, 8 Positions, 8 Loaded; Unshielded with Lightpipes; Right Angle"
height 13.21
pads (67):
  rect 1.5x1.5 hole 0.9: A1(-51.562,7.49) B1(-35.814,7.49) C1(-20.066,7.49) D1(-4.318,7.49) E1(11.43,7.49) F1(27.178,7.49) G1(42.926,7.49) H1(58.674,7.49)
  round 1.5 hole 0.9: A2(-52.578,9.268) A3(-53.594,7.49) A4(-54.61,9.268) A5(-55.626,7.49) A6(-56.642,9.268) A7(-57.658,7.49) A8(-58.674,9.268) B2(-36.83,9.268) B3(-37.846,7.49) B4(-38.862,9.268) B5(-39.878,7.49) B6(-40.894,9.268) B7(-41.91,7.49) B8(-42.926,9.268) C2(-21.082,9.268) C3(-22.098,7.49) C4(-23.114,9.268) C5(-24.13,7.49) C6(-25.146,9.268) C7(-26.162,7.49) C8(-27.178,9.268) D2(-5.334,9.268) D3(-6.35,7.49) D4(-7.366,9.268) D5(-8.382,7.49) D6(-9.398,9.268) D7(-10.414,7.49) D8(-11.43,9.268) E2(10.414,9.268) E3(9.398,7.49) E4(8.382,9.268) E5(7.366,7.49) E6(6.35,9.268) E7(5.334,7.49) E8(4.318,9.268) F2(26.162,9.268) F3(25.146,7.49) F4(24.13,9.268) F5(23.114,7.49) F6(22.098,9.268) F7(21.082,7.49) F8(20.066,9.268) G2(41.91,9.268) G3(40.894,7.49) G4(39.878,9.268) G5(38.862,7.49) G6(37.846,9.268) G7(36.83,7.49) G8(35.814,9.268) H2(57.658,9.268) H3(56.642,7.49) H4(55.626,9.268) H5(54.61,7.49) H6(53.594,9.268) H7(52.578,7.49) H8(51.562,9.268)
  round 2.95 hole 3.25 unplated: MH1(-61.468,4.95) MH2(0,4.95) MH3(61.468,4.95)
Top Overlay:
  lines w0.2: -61.782,13.348 -61.782,11.748 -59.782,11.748 -59.782,13.348 ; -61.782,14.231 -61.782,15.631 -61.382,16.031 -60.182,16.031 -59.782,15.631 -59.782,14.231 ; -61.782,14.99 -63.493,14.99 -63.493,0 63.493,0 63.493,14.99 61.782,14.99 ; -59.782,14.99 -50.454,14.99 ; -50.454,13.348 -50.454,11.748 -48.454,11.748 -48.454,13.348 ; -50.454,14.231 -50.454,15.631 -50.054,16.031 -48.854,16.031 -48.454,15.631 -48.454,14.231 ; -48.454,14.99 -46.034,14.99 ; -46.034,13.348 -46.034,11.748 -44.034,11.748 -44.034,13.348 ; -46.034,14.231 -46.034,15.631 -45.634,16.031 -44.434,16.031 -44.034,15.631 -44.034,14.231 ; -44.034,14.99 -34.706,14.99 ; -34.706,13.348 -34.706,11.748 -32.706,11.748 -32.706,13.348 ; -34.706,14.231 -34.706,15.631 -34.306,16.031 -33.106,16.031 -32.706,15.631 -32.706,14.231 ; -32.706,14.99 -30.286,14.99 ; -30.286,13.348 -30.286,11.748 -28.286,11.748 -28.286,13.348 ; -30.286,14.231 -30.286,15.631 -29.886,16.031 -28.686,16.031 -28.286,15.631 -28.286,14.231 ; -28.286,14.99 -18.958,14.99 ; -18.958,13.348 -18.958,11.748 -16.958,11.748 -16.958,13.348 ; -18.958,14.231 -18.958,15.631 -18.558,16.031 -17.358,16.031 -16.958,15.631 -16.958,14.231 ; -16.958,14.99 -14.538,14.99 ; -14.538,13.348 -14.538,11.748 -12.538,11.748 -12.538,13.348 ; -14.538,14.231 -14.538,15.631 -14.138,16.031 -12.938,16.031 -12.538,15.631 -12.538,14.231 ; -12.538,14.99 -3.21,14.99 ; -3.21,13.348 -3.21,11.748 -1.21,11.748 -1.21,13.348 ; -3.21,14.231 -3.21,15.631 -2.81,16.031 -1.61,16.031 -1.21,15.631 -1.21,14.231 ; -1.21,14.99 1.21,14.99 ; 1.21,13.348 1.21,11.748 3.21,11.748 3.21,13.348 ; 1.21,14.231 1.21,15.631 1.61,16.031 2.81,16.031 3.21,15.631 3.21,14.231 ; 3.21,14.99 12.538,14.99 ; 12.538,13.348 12.538,11.748 14.538,11.748 14.538,13.348 ; 12.538,14.231 12.538,15.631 12.938,16.031 14.138,16.031 14.538,15.631 14.538,14.231 ; 14.538,14.99 16.958,14.99 ; 16.958,13.348 16.958,11.748 18.958,11.748 18.958,13.348 ; 16.958,14.231 16.958,15.631 17.358,16.031 18.558,16.031 18.958,15.631 18.958,14.231 ; 18.958,14.99 28.286,14.99 ; 28.286,13.348 28.286,11.748 30.286,11.748 30.286,13.348 ; 28.286,14.231 28.286,15.631 28.686,16.031 29.886,16.031 30.286,15.631 30.286,14.231 ; 30.286,14.99 32.706,14.99 ; 32.706,13.348 32.706,11.748 34.706,11.748 34.706,13.348 ; 32.706,14.231 32.706,15.631 33.106,16.031 34.306,16.031 34.706,15.631 34.706,14.231 ; 34.706,14.99 44.034,14.99 ; 44.034,13.348 44.034,11.748 46.034,11.748 46.034,13.348 ; 44.034,14.231 44.034,15.631 44.434,16.031 45.634,16.031 46.034,15.631 46.034,14.231 ; 46.034,14.99 48.454,14.99 ; 48.454,13.348 48.454,11.748 50.454,11.748 50.454,13.348 ; 48.454,14.231 48.454,15.631 48.854,16.031 50.054,16.031 50.454,15.631 50.454,14.231 ; 50.454,14.99 59.782,14.99 ; 59.782,13.348 59.782,11.748 61.782,11.748 61.782,13.348 ; 59.782,14.231 59.782,15.631 60.182,16.031 61.382,16.031 61.782,15.631 61.782,14.231
Mechanical 1:
  rectangle: 60.182,14.231 61.382,15.431
  rectangle: 60.182,12.148 61.382,13.348
  rectangle: 48.854,14.231 50.054,15.431
  rectangle: 48.854,12.148 50.054,13.348
  rectangle: 44.434,14.231 45.634,15.431
  rectangle: 44.434,12.148 45.634,13.348
  rectangle: 33.106,14.231 34.306,15.431
  rectangle: 33.106,12.148 34.306,13.348
  rectangle: 28.686,14.231 29.886,15.431
  rectangle: 28.686,12.148 29.886,13.348
  rectangle: 17.358,14.231 18.558,15.431
  rectangle: 17.358,12.148 18.558,13.348
  rectangle: 12.938,14.231 14.138,15.431
  rectangle: 12.938,12.148 14.138,13.348
  rectangle: 1.61,14.231 2.81,15.431
  rectangle: 1.61,12.148 2.81,13.348
  rectangle: -2.81,14.231 -1.61,15.431
  rectangle: -2.81,12.148 -1.61,13.348
  rectangle: -14.138,14.231 -12.938,15.431
  rectangle: -14.138,12.148 -12.938,13.348
  rectangle: -18.558,14.231 -17.358,15.431
  rectangle: -18.558,12.148 -17.358,13.348
  rectangle: -29.886,14.231 -28.686,15.431
  rectangle: -29.886,12.148 -28.686,13.348
  rectangle: -34.306,14.231 -33.106,15.431
  rectangle: -34.306,12.148 -33.106,13.348
  rectangle: -45.634,14.231 -44.434,15.431
  rectangle: -45.634,12.148 -44.434,13.348
  rectangle: -50.054,14.231 -48.854,15.431
  rectangle: -50.054,12.148 -48.854,13.348
  rectangle: -61.382,14.231 -60.182,15.431
  rectangle: -61.382,12.148 -60.182,13.348
  lines w0.1: -60.982,13.789 -60.782,13.789 ; -60.782,13.589 -60.782,13.789 ; -60.782,13.989 -60.782,13.789 ; -60.582,13.789 -60.782,13.789 ; -49.654,13.789 -49.454,13.789 ; -49.454,13.589 -49.454,13.789 ; -49.454,13.989 -49.454,13.789 ; -49.254,13.789 -49.454,13.789 ; -45.234,13.789 -45.034,13.789 ; -45.034,13.589 -45.034,13.789 ; -45.034,13.989 -45.034,13.789 ; -44.834,13.789 -45.034,13.789 ; -33.906,13.789 -33.706,13.789 ; -33.706,13.589 -33.706,13.789 ; -33.706,13.989 -33.706,13.789 ; -33.506,13.789 -33.706,13.789 ; -29.486,13.789 -29.286,13.789 ; -29.286,13.589 -29.286,13.789 ; -29.286,13.989 -29.286,13.789 ; -29.086,13.789 -29.286,13.789 ; -18.158,13.789 -17.958,13.789 ; -17.958,13.589 -17.958,13.789 ; -17.958,13.989 -17.958,13.789 ; -17.758,13.789 -17.958,13.789 ; -13.738,13.789 -13.538,13.789 ; -13.538,13.589 -13.538,13.789 ; -13.538,13.989 -13.538,13.789 ; -13.338,13.789 -13.538,13.789 ; -2.41,13.789 -2.21,13.789 ; -2.21,13.589 -2.21,13.789 ; -2.21,13.989 -2.21,13.789 ; -2.01,13.789 -2.21,13.789 ; 2.01,13.789 2.21,13.789 ; 2.21,13.589 2.21,13.789 ; 2.21,13.989 2.21,13.789 ; 2.41,13.789 2.21,13.789 ; 13.338,13.789 13.538,13.789 ; 13.538,13.589 13.538,13.789 ; 13.538,13.989 13.538,13.789 ; 13.738,13.789 13.538,13.789 ; 17.758,13.789 17.958,13.789 ; 17.958,13.589 17.958,13.789 ; 17.958,13.989 17.958,13.789 ; 18.158,13.789 17.958,13.789 ; 29.086,13.789 29.286,13.789 ; 29.286,13.589 29.286,13.789 ; 29.286,13.989 29.286,13.789 ; 29.486,13.789 29.286,13.789 ; 33.506,13.789 33.706,13.789 ; 33.706,13.589 33.706,13.789 ; 33.706,13.989 33.706,13.789 ; 33.906,13.789 33.706,13.789 ; 44.834,13.789 45.034,13.789 ; 45.034,13.589 45.034,13.789 ; 45.034,13.989 45.034,13.789 ; 45.234,13.789 45.034,13.789 ; 49.254,13.789 49.454,13.789 ; 49.454,13.589 49.454,13.789 ; 49.454,13.989 49.454,13.789 ; 49.654,13.789 49.454,13.789 ; 60.582,13.789 60.782,13.789 ; 60.782,13.589 60.782,13.789 ; 60.782,13.989 60.782,13.789 ; 60.982,13.789 60.782,13.789

## JACK1.02-4H4 [mm] "Connector; PCB Jack, Thru-Hole; 1-Port, 6 Positions, 4 Loaded; Shielded without Lightpipes; Right Angle"
height 13.54
pads (8):
  rect 1.5x1.5 hole 0.9: 1(1.524,7.82)
  round 1.5 hole 0.9: 2(0.508,9.598) 3(-0.508,7.82) 4(-1.524,9.598)
  round 2.65 hole 1.6: MH1(-8.103,8.709) MH2(8.103,8.709)
  round 2.95 hole 3.25 unplated: MH3(-6.35,5.28) MH4(6.35,5.28)
Top Overlay:
  lines w0.2: -8.19,4.434 -8.19,0 8.19,0 8.19,4.434 ; -8.19,6.126 -8.19,6.986 ; -8.19,10.432 -8.19,15.75 8.19,15.75 8.19,10.432 ; 8.19,6.126 8.19,6.986

## JACK1.02-4H4A [mm] "Connector; PCB Jack, Thru-Hole; 1-Port, 6 Positions, 4 Loaded; Shielded with Lightpipes; Right Angle"
height 13.53
pads (8):
  rect 1.5x1.5 hole 0.9: 1(1.524,7.82)
  round 1.5 hole 0.9: 2(0.508,9.598) 3(-0.508,7.82) 4(-1.524,9.598)
  round 2.65 hole 1.6: MH1(-8.103,8.709) MH2(8.103,8.709)
  round 2.95 hole 3.25 unplated: MH3(-6.35,5.28) MH4(6.35,5.28)
Top Overlay:
  lines w0.2: -8.19,4.434 -8.19,0 8.19,0 8.19,4.434 ; -8.19,6.126 -8.19,6.986 ; -8.19,10.432 -8.19,15.75 -6.613,15.75 ; -6.613,13.602 -6.613,12.002 -4.613,12.002 -4.613,13.602 ; -6.613,14.484 -6.613,15.884 -6.213,16.284 -5.013,16.284 -4.613,15.884 -4.613,14.484 ; -4.613,15.75 4.664,15.75 ; 4.664,13.602 4.664,12.002 6.664,12.002 6.664,13.602 ; 4.664,14.484 4.664,15.884 5.064,16.284 6.264,16.284 6.664,15.884 6.664,14.484 ; 6.664,15.75 8.19,15.75 8.19,10.432 ; 8.19,6.126 8.19,6.986
Mechanical 1:
  rectangle: 5.064,14.484 6.264,15.684
  rectangle: 5.064,12.402 6.264,13.602
  rectangle: -6.213,14.484 -5.013,15.684
  rectangle: -6.213,12.402 -5.013,13.602
  lines w0.1: -5.813,14.043 -5.613,14.043 ; -5.613,13.843 -5.613,14.043 ; -5.613,14.243 -5.613,14.043 ; -5.413,14.043 -5.613,14.043 ; 5.464,14.043 5.664,14.043 ; 5.664,13.843 5.664,14.043 ; 5.664,14.243 5.664,14.043 ; 5.864,14.043 5.664,14.043

## JACK1.02-4H6 [mm] "Connector; PCB Jack, Thru-Hole; 1-Port, 6 Positions, 6 Loaded; Shielded with Lightpipes; Right Angle"
height 13.53
pads (10):
  rect 1.5x1.5 hole 0.9: 1(2.54,9.598)
  round 1.5 hole 0.9: 2(1.524,7.82) 3(0.508,9.598) 4(-0.508,7.82) 5(-1.524,9.598) 6(-2.54,7.82)
  round 2.65 hole 1.6: MH1(-8.103,8.709) MH2(8.103,8.709)
  round 2.95 hole 3.25 unplated: MH3(-6.35,5.28) MH4(6.35,5.28)
Top Overlay:
  lines w0.2: -8.19,4.434 -8.19,0 8.19,0 8.19,4.434 ; -8.19,6.126 -8.19,6.986 ; -8.19,10.432 -8.19,15.75 -6.613,15.75 ; -6.613,13.602 -6.613,12.002 -4.613,12.002 -4.613,13.602 ; -6.613,14.484 -6.613,15.884 -6.213,16.284 -5.013,16.284 -4.613,15.884 -4.613,14.484 ; -4.613,15.75 4.664,15.75 ; 4.664,13.602 4.664,12.002 6.664,12.002 6.664,13.602 ; 4.664,14.484 4.664,15.884 5.064,16.284 6.264,16.284 6.664,15.884 6.664,14.484 ; 6.664,15.75 8.19,15.75 8.19,10.432 ; 8.19,6.126 8.19,6.986
Mechanical 1:
  rectangle: 5.064,14.484 6.264,15.684
  rectangle: 5.064,12.402 6.264,13.602
  rectangle: -6.213,14.484 -5.013,15.684
  rectangle: -6.213,12.402 -5.013,13.602
  lines w0.1: -5.813,14.043 -5.613,14.043 ; -5.613,13.843 -5.613,14.043 ; -5.613,14.243 -5.613,14.043 ; -5.413,14.043 -5.613,14.043 ; 5.464,14.043 5.664,14.043 ; 5.664,13.843 5.664,14.043 ; 5.664,14.243 5.664,14.043 ; 5.864,14.043 5.664,14.043

## JACK1.02-4H6A [mm] "Connector; PCB Jack, Thru-Hole; 1-Port, 6 Positions, 6 Loaded; Shielded without Lightpipes; Right Angle"
height 13.54
pads (10):
  rect 1.5x1.5 hole 0.9: 1(2.54,9.598)
  round 1.5 hole 0.9: 2(1.524,7.82) 3(0.508,9.598) 4(-0.508,7.82) 5(-1.524,9.598) 6(-2.54,7.82)
  round 2.65 hole 1.6: MH1(-8.103,8.709) MH2(8.103,8.709)
  round 2.95 hole 3.25 unplated: MH3(-6.35,5.28) MH4(6.35,5.28)
Top Overlay:
  lines w0.2: -8.19,4.434 -8.19,0 8.19,0 8.19,4.434 ; -8.19,6.126 -8.19,6.986 ; -8.19,10.432 -8.19,15.75 8.19,15.75 8.19,10.432 ; 8.19,6.126 8.19,6.986

## JACK1.02-4H8 [mm] "Connector; PCB Jack, Thru-Hole; 2-Port, 6 Positions, 4 Loaded; Shielded without Lightpipes; Right Angle"
height 13.45
pads (12):
  rect 1.6x1.6 hole 0.9: A1(-6.35,7.72) B1(9.398,7.72)
  round 1.6 hole 0.9: A2(-7.366,9.498) A3(-8.382,7.72) A4(-9.398,9.498) B2(8.382,9.498) B3(7.366,7.72) B4(6.35,9.498)
  round 2.65 hole 1.6: MH1(-15.977,8.609) MH2(15.977,8.609)
  round 2.95 hole 3.25 unplated: MH3(-14.224,5.18) MH4(14.224,5.18)
Top Overlay:
  lines w0.2: -16.249,6.906 -16.249,0 16.249,0 16.249,6.906 ; -16.249,10.312 -16.249,15.47 16.249,15.47 16.249,10.312